# EAGLE library part ARDUINOWEE (library arduinoWee)
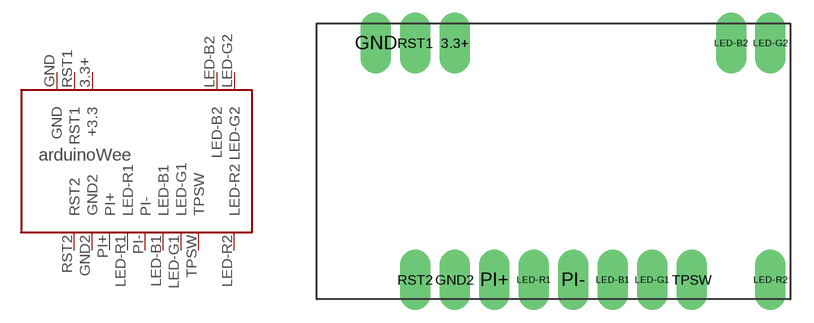
[diagram p0: symbol with the pads of ARDUINOWEE; footprint ARDUINOWEE]

Designator prefix -

## ARDUINOWEE  [ARDUINOWEE]
3.3+  +3.3
GND  GND
GND2  GND2
LED-B1  LED-B1
LED-B2  LED-B2
LED-G1  LED-G1
LED-G2  LED-G2
LED-R1  LED-R1
LED-R2  LED-R2
PI+  PI+
PI-  PI-
RST1  RST1
RST2  RST2
TPSW  TPSW

## Footprint ARDUINOWEE (pad centres in mm)
drill 1.3 pad 1.676 long: 3.3+ 7.62,0; GND 2.54,0; GND2 7.62,-15.24; LED-B1 17.78,-15.24; LED-B2 25.4,0; LED-G1 20.32,-15.24; LED-G2 27.94,0; LED-R1 12.7,-15.24; LED-R2 27.94,-15.24; PI+ 10.16,-15.24; PI- 15.24,-15.24; RST1 5.08,0; RST2 5.08,-15.24; TPSW 22.86,-15.24